# EAGLE library part MOC3021SM (library MOC3021SM)
6-Pin DIP Random-Phase Triac Driver Output Optocoupler (250/400 V Peak) Source: Datasheet <https://www.onsemi.com/pub/Collateral/MOC3023M-D.PDF>
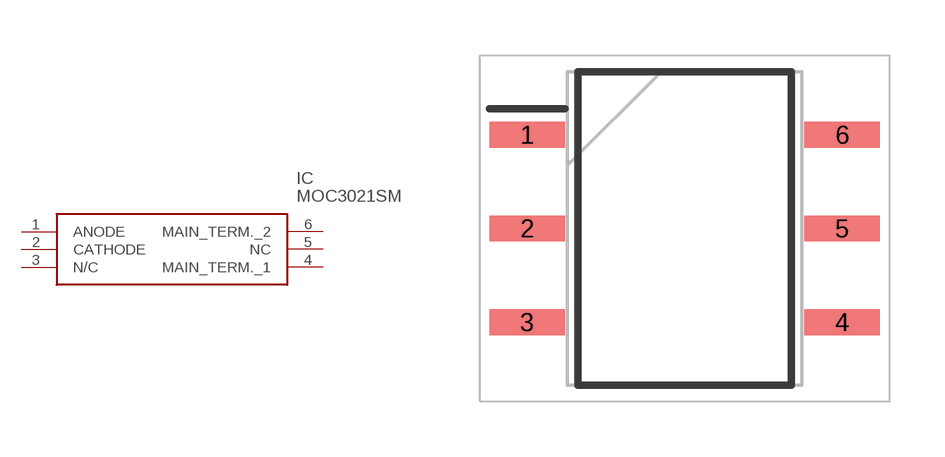
[diagram p0: symbol with the pads of SOP254P916X480-6N; footprint SOP254P916X480-6N]

Designator prefix IC

## MOC3021SM (Description: 6-Pin DIP Random-Phase Triac Driver Output Optocoupler (250/400 V Peak); Height: 4.8mm; Manufacturer_Name: onsemi; Manufacturer_Part_Number: MOC3021SM; Mouser_Part_Number: 512-MOC3021SM; Mouser_Price-Stock: https://www.mouser.co.uk/ProductDetail/onsemi-Fairchild/MOC3021SM?qs=ZS9em9a1DI4mnS4oQ%2FdKAA%3D%3D)  [SOP254P916X480-6N]
1  ANODE
2  CATHODE
3  N/C  nc
4  MAIN_TERM._1
5  NC  nc
6  MAIN_TERM._2

## Footprint SOP254P916X480-6N (pad centres in mm)
PDIP6 8.51x6.35, 2.54P-
smd 2.05 x 0.7: 1 -4.275,2.54; 2 -4.275,0; 3 -4.275,-2.54; 4 4.275,-2.54; 5 4.275,0; 6 4.275,2.54